# EAGLE library part DISPLAY_16X2 (library 2021-07-02 OrangeHat Library)
Tuxgraphics LCD display 16x2 characters reflective, without background light Source: tuxgr_12x2_r2.pdf
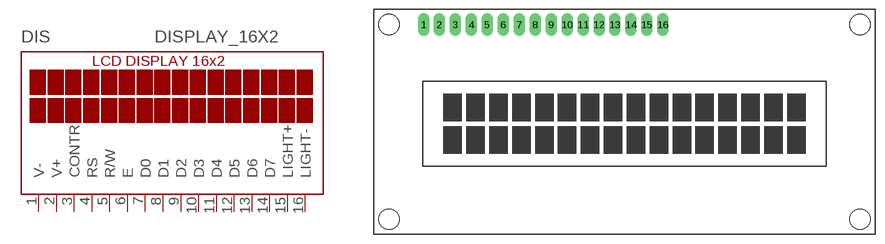
[diagram p2: symbol with the pads of DISPLAY_16X2; footprint DISPLAY_16X2]

Designator prefix DIS

## DISPLAY_16X2 (OC_FARNELL: unknown; OC_NEWARK: unknown)  [DISPLAY_16X2]
1  V-  pwr
2  V+  pwr
3  CONTR  in
4  RS  in
5  R/W  in
6  E  in
7  D0  in
8  D1  in
9  D2  in
10  D3  in
11  D4  in
12  D5  in
13  D6  in
14  D7  in
15  LIGHT+  pwr
16  LIGHT-  pwr

## Footprint DISPLAY_16X2 (pad centres in mm)
Tuxgraphics LCD display 16x2 characters reflective, without background light Source: tuxgr_12x2_r2.pdf
drill 1.2 long: 1 8.005,33.28; 2 10.545,33.28; 3 13.085,33.28; 4 15.625,33.28; 5 18.165,33.28; 6 20.705,33.28; 7 23.245,33.28; 8 25.785,33.28; 9 28.325,33.28; 10 30.865,33.28; 11 33.405,33.28; 12 35.945,33.28; 13 38.485,33.28; 14 41.025,33.28; 15 43.565,33.28; 16 46.105,33.28
hole 3.2 at 2.505,2.28
hole 3.2 at 77.505,2.28
hole 3.2 at 2.505,33.28
hole 3.2 at 77.505,33.28